# Altium footprint library Epcos.PcbLib: 1 footprints
Each footprint in its own frame and in the unit in brackets; x right, y up, seen from the top. Pads: shape width x height; smd on the part's side, far side on the other; paste and mask are expansions set on the pad; w line width, h text height; cw(c..) or ccw(c..) is an arc to the next point about the centre after c.
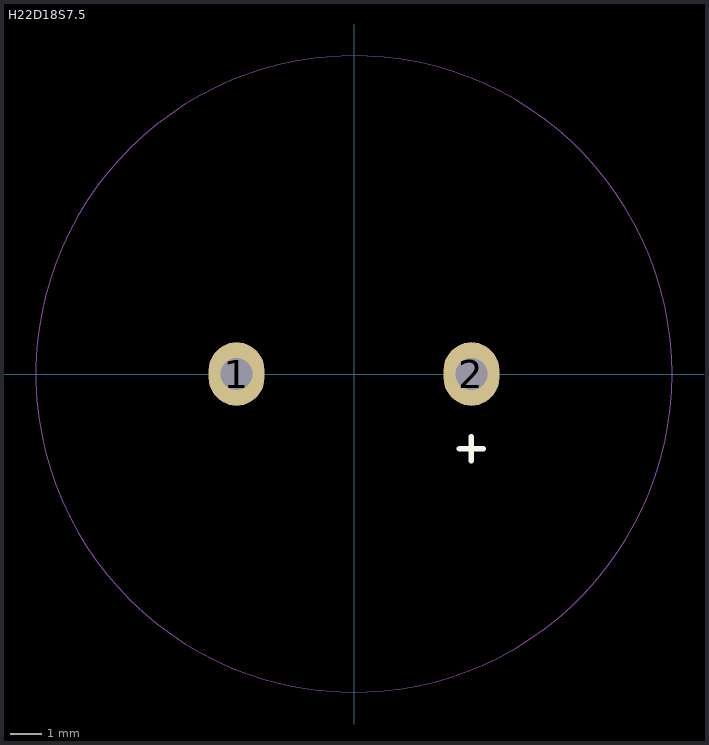
[diagram p0: the footprint, top view; thin cyan lines are the x and y axes]

## H22D18S7.5 [mil]
pads (2):
  oval 70x80 hole 40: 1(-147.64,0) 2(147.64,0)
Top Overlay:
  lines w7: 132.64,-94 162.64,-94 ; 147.64,-109 147.64,-79
Top Designator:
  text ".Designator" at 12.5,-127.64 h35
Top Courtyard:
  circle w1: c0,0 r400
3D body: height 866.14, standoff 0, extent -354.33,-354.2 354.33,354.21